# Altium schematic symbol library LEDPCB.SchLib: 2 symbols
Pins are listed as number, name and electrical type; pins without a type are passive.

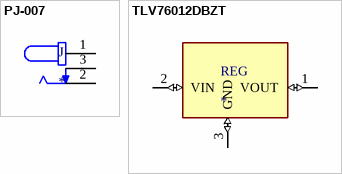
[diagram p0: symbols PJ-007 to TLV76012DBZT]

## PJ-007
designator J
1.3 x 4.2 mm, 2.0 A, Horizontal, Through Hole, Dc Power Jack Connector
footprint CUI_PJ-007
pins: 1, 2, 3

## TLV76012DBZT
designator REG
Linear Voltage Regulator IC 1 Output 100mA SOT-23-3
footprint SOT23
pins: 1 VOUT (io), 2 VIN (io), 3 GND (io)